# EAGLE library part AT24C*-? (library shcustomlib)
AT24C Series Two Wire Serial EEPROM Package(s): DIP-SOCKET-08 Manufacturer(s): Atmel/Microchip The 24C0XX series are I²C serial Electrically Erasable Programmable Read-Only Memory (EEPROM) with a voltage range of 4.5 to 5.5V. Low-current design permits operation with maximum standby and active currents of only 5µA and 1mA, respectively.
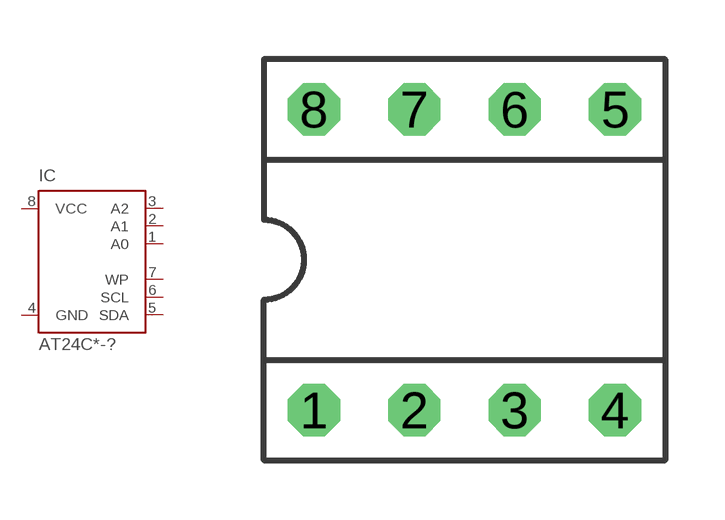
[diagram p2: symbol with the pads of DIPSOCKET-08; footprint DIPSOCKET-08]

Designator prefix IC

## AT24C04AN-SOCKET8  [DIPSOCKET-08]
1  A0  in
2  A1  in
3  A2  in
4  GND  pwr
5  SDA
6  SCL
7  WP  in
8  VCC  pwr

## Footprint DIPSOCKET-08 (pad centres in mm)
drill 0.813 octagon: 1 -3.81,-3.81; 2 -1.27,-3.81; 3 1.27,-3.81; 4 3.81,-3.81; 5 3.81,3.81; 6 1.27,3.81; 7 -1.27,3.81; 8 -3.81,3.81